# Altium footprint library FiberOptic_PCB.PcbLib: 56 footprints (part 2 of 4)
Each footprint in its own frame and in the unit in brackets; x right, y up, seen from the top. Pads: shape width x height; smd on the part's side, far side on the other; paste and mask are expansions set on the pad; w line width, h text height; cw(c..) or ccw(c..) is an arc to the next point about the centre after c.
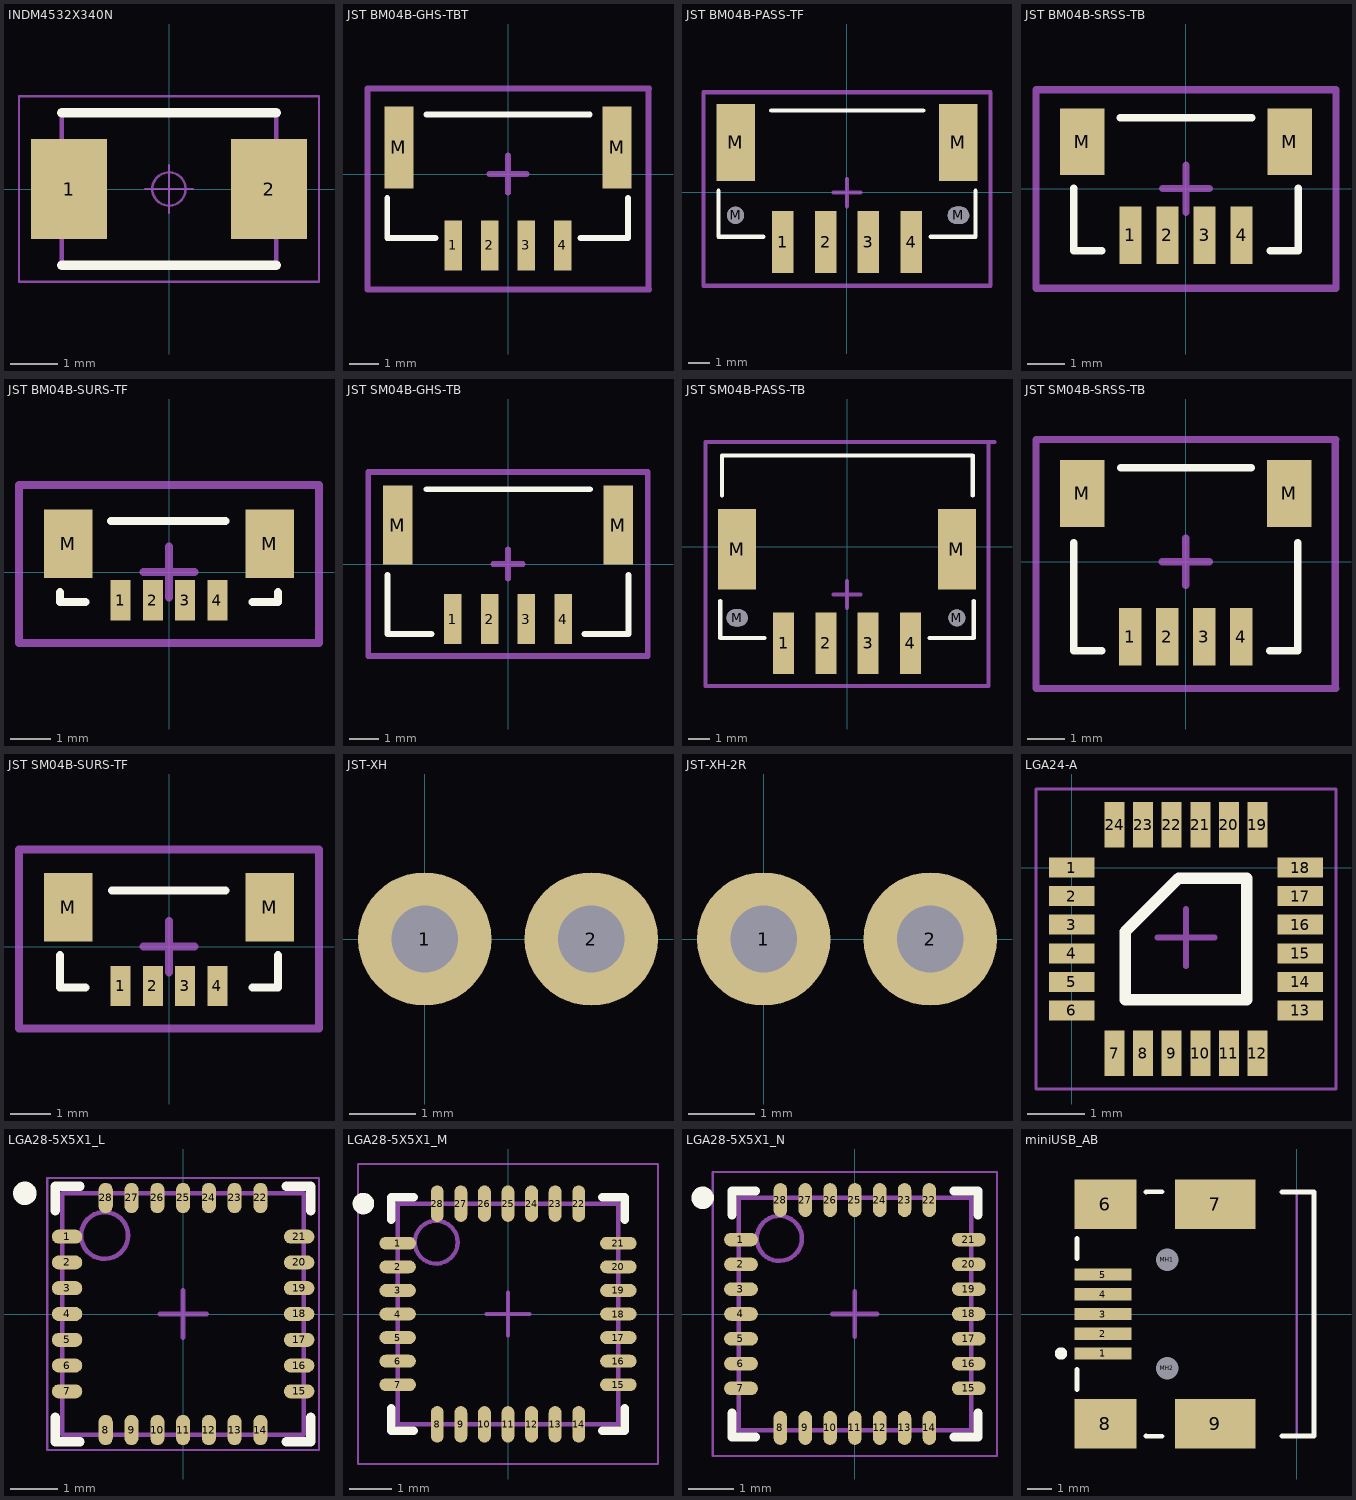
[diagram p1: the footprints below, top view; thin cyan lines are the x and y axes]

## INDM4532X340N [mm] "Inductor, Molded Body; 4.5mm L X 3.2mm W, IPC Medium Density"
height 3.4
pads (2):
  rect 1.6x2.1 smd: 1(-2.1,0) 2(2.1,0)
Top Overlay:
  lines w0.2: -2.25,-1.6 2.25,-1.6 ; -2.25,1.6 2.25,1.6
Mechanical 14:
  lines w0.1: -2.25,-1.6 -2.25,1.6 2.25,1.6 2.25,-1.6 -2.25,-1.6
Mechanical 15:
  circle w0.05: c0,0 r0.35
  lines w0.05: -0.5,0 0.5,0 ; 0,-0.5 0,0.5 ; -3.15,-1.95 -3.15,1.95 3.15,1.95 3.15,-1.95 -3.15,-1.95
3D body "INDM4532X340N.stp": height 3.4, standoff 0, extent -2.25,-1.6 2.25,1.6

## JST BM04B-GHS-TBT [mm] "JST GH Series 1.25mm pitch, top entry connector"
height 4.5
pads (6):
  rect 0.6x1.7 smd: 1(-1.875,-2.437) 2(-0.625,-2.437) 3(0.625,-2.437) 4(1.875,-2.437)
  rect 1x2.8 smd: M(-3.725,0.913) M(3.725,0.913)
Top Overlay:
  lines w0.2: -4.125,-0.812 -4.125,-2.187 -2.475,-2.187 ; -2.784,2.032 2.794,2.032 ; 2.475,-2.187 4.1,-2.187 4.1,-0.812
Mechanical 15:
  lines w0.2: -0.635,0 0.635,0 ; 0,-0.635 0,0.635 ; 4.806,-3.937 4.806,2.921 ; 4.826,-3.937 -4.806,-3.937 -4.806,2.921 4.826,2.921
3D body "JST BM04B-GHS-TBT.STEP": height 4.18, standoff -0.03, extent -4.125,-2.918 4.125,2.032

## JST BM04B-PASS-TF [mm] "JST PA Series 2mm pitch, top entry connector"
height 11.1
pads (8):
  rect 1x2.9 smd: 1(-3,-2.325) 2(-1,-2.325) 3(1,-2.325) 4(3,-2.325)
  round 0.8 hole 0.8 unplated mask+0.102: M(-5.2,-1.075)
  rect 1.8x3.6 smd: M(-5.2,2.325) M(5.2,2.325)
  oval 1x0.8 hole 0.8 slot 1 at 0 deg unplated mask+0.102: M(5.2,-1.075)
Top Overlay:
  lines w0.2: -6,0.075 -6,-2.075 -3.905,-2.075 ; -3.54,3.81 3.556,3.81 ; 3.905,-2.075 6,-2.075 6,0.075
Mechanical 15:
  lines w0.2: -0.635,-0.015 0.635,-0.015 ; 0,-0.65 0,0.62 ; -6.699,-4.357 6.699,-4.357 6.699,4.66 -6.699,4.66 -6.699,-4.357
3D body "JST BM04B-PASS-TF.STEP": height 9, standoff 0, extent -6,-3.225 6,3.875

## JST BM04B-SRSS-TB [mm] "1.0mm pitch/Disconnectable Crimp style connector"
height 2.95
pads (6):
  rect 0.6x1.55 smd: 1(-1.5,-1.262) 2(-0.5,-1.262) 3(0.5,-1.262) 4(1.5,-1.262)
  rect 1.2x1.8 smd: M(-2.8,1.262) M(2.8,1.262)
Top Overlay:
  lines w0.2: -3.032,0.008 -3.032,-1.676 -2.27,-1.676 ; -1.77,1.905 1.778,1.905 ; 2.27,-1.676 3.032,-1.676 3.032,0.008
Mechanical 15:
  lines w0.2: -0.635,0 0.635,0 ; 0,-0.635 0,0.635 ; -4.048,-2.692 -4.048,2.667 4.048,2.667 4.048,-2.692 -4.048,-2.692
3D body "JST BM04B-SRSS-TB.STEP": height 4.32, standoff 0, extent -3,-1.688 3,1.912

## JST BM04B-SURS-TF [mm] "1.0mm pitch/Disconnectable Crimp style connector"
height 3.95
pads (6):
  rect 0.5x1 smd: 1(-1.2,-0.7) 2(-0.4,-0.7) 3(0.4,-0.7) 4(1.2,-0.7)
  rect 1.2x1.7 smd: M(-2.5,0.7) M(2.5,0.7)
Top Overlay:
  lines w0.2: -2.705,-0.5 -2.705,-0.741 -2.07,-0.741 ; -1.435,1.27 1.397,1.27 ; 2.07,-0.741 2.705,-0.741 2.705,-0.5
Mechanical 15:
  lines w0.2: -0.635,0 0.635,0 ; 0,-0.635 0,0.635 ; -3.721,-1.757 3.721,-1.757 3.721,2.159 -3.721,2.159 -3.721,-1.757
3D body "JST BM04B-SURS-TF.STEP": height 2.75, standoff 0, extent -2.7,-1.016 2.7,1.234

## JST SM04B-GHS-TB [mm] "1.25mm pitch/Disconnectable Crimp style connectors"
height 4.35
pads (6):
  rect 0.6x1.7 smd: 1(-1.875,-1.875) 2(-0.625,-1.875) 3(0.625,-1.875) 4(1.875,-1.875)
  rect 1x2.7 smd: M(-3.75,1.325) M(3.75,1.325)
Top Overlay:
  lines w0.2: -4.1,-0.375 -4.1,-2.375 -2.6,-2.375 ; -2.774,2.54 2.794,2.54 ; 2.6,-2.375 4.1,-2.375 4.1,-0.375
Mechanical 15:
  lines w0.2: -0.5,0 0.5,0 ; 0,-0.5 0,0.5 ; -4.75,-3.125 -4.75,3.125 4.75,3.125 4.75,-3.125 -4.75,-3.125
3D body "JST SM04B-GHS-TB.STEP": height 4.35, standoff 0, extent -4.125,-2.31 4.125,2.54

## JST SM04B-PASS-TB [mm] "JST PA Series 2mm pitch, side entry connector"
height 5.7
pads (8):
  rect 1x2.9 smd: 1(-3,-4.575) 2(-1,-4.575) 3(1,-4.575) 4(3,-4.575)
  oval 1x0.8 hole 0.8 slot 1 at 0 deg unplated mask+0.102: M(-5.2,-3.375)
  rect 1.8x3.8 smd: M(-5.2,-0.125) M(5.2,-0.125)
  round 0.8 hole 0.8 unplated mask+0.102: M(5.2,-3.375)
Top Overlay:
  lines w0.2: -6,-2.575 -6,-4.325 -3.905,-4.325 ; -5.921,2.41 -5.921,4.315 5.953,4.315 5.953,2.41 ; 3.905,-4.325 6,-4.325 6,-2.575
Mechanical 15:
  lines w0.2: -0.635,-2.265 0.635,-2.265 ; 0,-2.9 0,-1.63 ; 6.699,4.953 6.699,-6.607 -6.699,-6.607 -6.699,4.953 6.985,4.953
3D body "JST SM04B-PASS-TB.STEP": height 5.8, standoff 0, extent -6,-5.641 6,4.359

## JST SM04B-SRSS-TB [mm] "1.0mm pitch/Disconnectable Crimp style connector"
height 2.95
pads (6):
  rect 0.6x1.55 smd: 1(-1.5,-2.032) 2(-0.5,-2.032) 3(0.5,-2.032) 4(1.5,-2.032)
  rect 1.2x1.8 smd: M(-2.8,1.843) M(2.8,1.843)
Top Overlay:
  lines w0.2: -3.032,0.508 -3.032,-2.413 -2.27,-2.413 ; -1.762,2.54 1.778,2.54 ; 2.27,-2.413 3.032,-2.413 3.032,0.508
Mechanical 15:
  lines w0.2: -0.635,0 0.635,0 ; 0,-0.635 0,0.635 ; 4.048,-3.429 4.048,3.302 ; 4.064,-3.429 -4.048,-3.429 -4.048,3.302 4.064,3.302
3D body "JST SM04B-SRSS-TB.STEP": height 2.95, standoff -0.01, extent -3,-2.383 3,2.567

## JST SM04B-SURS-TF [mm] "1.0mm pitch/Disconnectable Crimp style connector"
height 2.95
pads (6):
  rect 0.5x1 smd: 1(-1.2,-0.975) 2(-0.4,-0.975) 3(0.4,-0.975) 4(1.2,-0.975)
  rect 1.2x1.7 smd: M(-2.5,0.975) M(2.5,0.975)
Top Overlay:
  lines w0.2: -2.705,-0.213 -2.705,-1.016 -2.07,-1.016 ; -1.416,1.397 1.397,1.397 ; 2.07,-1.016 2.705,-1.016 2.705,-0.213
Mechanical 15:
  lines w0.2: -0.635,0 0.635,0 ; 0,-0.635 0,0.635 ; -3.721,-2.032 -3.721,2.413 3.721,2.413 3.721,-2.032 -3.721,-2.032
3D body "JST SM04B-SURS-TF.STEP": height 1.75, standoff 0, extent -2.7,-1.303 2.7,1.397

## JST-XH [mm]
pads (2):
  round 2 hole 1: 1(0,0) 2(2.5,0)
3D body "JST 2pin.stp": height 6.85, standoff -3.45, extent -2.515,-3.5 4.915,2.228

## JST-XH-2R [mm]
pads (2):
  round 2 hole 1: 1(0,0) 2(2.5,0)
3D body "User Library-S2B-XH-A-1.STEP": height 5.95, standoff -3.4, extent -2.447,-9.139 4.953,0.381

## LGA24-A [mm]
pads (24):
  rect 0.8x0.35 smd mask+0.051: 1(0,0) 2(0,-0.5) 3(0,-1) 4(0,-1.5) 5(0,-2) 6(0,-2.5) 13(4,-2.5) 14(4,-2) 15(4,-1.5) 16(4,-1)
  rect 0.35x0.8 smd mask+0.051: 7(0.75,-3.25) 8(1.25,-3.25) 9(1.75,-3.25) 10(2.25,-3.25) 11(2.75,-3.25) 12(3.25,-3.25) 19(3.25,0.75) 20(2.75,0.75) 21(2.25,0.75) 22(1.75,0.75) 23(1.25,0.75) 24(0.75,0.75)
  rect 0.8x0.35 smd paste+0 mask+0.051: 17(4,-0.5) 18(4,0)
Top Overlay:
  lines w0.2: 0.935,-2.315 0.935,-1.12 1.87,-0.185 3.065,-0.185 3.065,-2.315 0.935,-2.315
Mechanical 15:
  lines w0.05: -0.625,-3.875 -0.625,1.375 4.625,1.375 4.625,-3.875 -0.625,-3.875
  lines w0.1: 1.5,-1.225 2.5,-1.225 ; 2,-1.725 2,-0.725

## LGA28-5X5X1_L [mm] "PQFN, 28-Leads, Body 5x5mm, Pitch 0.55mm, IPC High Density"
height 1
pads (28):
  oval 0.65x0.3 smd: 1(-2.475,1.65) 2(-2.475,1.1) 3(-2.475,0.55) 4(-2.475,0) 5(-2.475,-0.55) 6(-2.475,-1.1) 7(-2.475,-1.65) 15(2.475,-1.65) 16(2.475,-1.1) 17(2.475,-0.55) 18(2.475,0) 19(2.475,0.55) 20(2.475,1.1) 21(2.475,1.65)
  oval 0.3x0.65 smd: 8(-1.65,-2.475) 9(-1.1,-2.475) 10(-0.55,-2.475) 11(0,-2.475) 12(0.55,-2.475) 13(1.1,-2.475) 14(1.65,-2.475) 22(1.65,2.475) 23(1.1,2.475) 24(0.55,2.475) 25(0,2.475) 26(-0.55,2.475) 27(-1.1,2.475) 28(-1.65,2.475)
Top Overlay:
  circle w0.25: c-3.375,2.575 r0.125
  lines w0.2: -2.725,-2.2 -2.725,-2.725 -2.2,-2.725 ; -2.725,2.2 -2.725,2.725 -2.2,2.725 ; 2.2,-2.725 2.725,-2.725 2.725,-2.2 ; 2.2,2.725 2.725,2.725 2.725,2.2
Mechanical 13:
  circle w0.1: c-1.675,1.675 r0.5
  lines w0.1: -2.575,-2.575 2.575,-2.575 2.575,2.575 -2.575,2.575 -2.575,-2.575
Mechanical 15:
  lines w0.05: -2.9,-2.9 2.9,-2.9 2.9,2.9 -2.9,2.9 -2.9,-2.9
  lines w0.1: -0.5,0 0.5,0 ; 0,-0.5 0,0.5
3D body: height 1, standoff 0, extent -2.575,-2.575 2.575,2.575

## LGA28-5X5X1_M [mm] "PQFN, 28-Leads, Body 5x5mm, Pitch 0.55mm, IPC Low Density"
height 1
pads (28):
  oval 0.85x0.3 smd: 1(-2.575,1.65) 2(-2.575,1.1) 3(-2.575,0.55) 4(-2.575,0) 5(-2.575,-0.55) 6(-2.575,-1.1) 7(-2.575,-1.65) 15(2.575,-1.65) 16(2.575,-1.1) 17(2.575,-0.55) 18(2.575,0) 19(2.575,0.55) 20(2.575,1.1) 21(2.575,1.65)
  oval 0.3x0.85 smd: 8(-1.65,-2.575) 9(-1.1,-2.575) 10(-0.55,-2.575) 11(0,-2.575) 12(0.55,-2.575) 13(1.1,-2.575) 14(1.65,-2.575) 22(1.65,2.575) 23(1.1,2.575) 24(0.55,2.575) 25(0,2.575) 26(-0.55,2.575) 27(-1.1,2.575) 28(-1.65,2.575)
Top Overlay:
  circle w0.25: c-3.375,2.575 r0.125
  lines w0.2: -2.725,-2.2 -2.725,-2.725 -2.2,-2.725 ; -2.725,2.2 -2.725,2.725 -2.2,2.725 ; 2.2,-2.725 2.725,-2.725 2.725,-2.2 ; 2.2,2.725 2.725,2.725 2.725,2.2
Mechanical 13:
  circle w0.1: c-1.675,1.675 r0.5
  lines w0.1: -2.575,-2.575 -2.575,2.575 2.575,2.575 2.575,-2.575 -2.575,-2.575
Mechanical 15:
  lines w0.05: -3.5,-3.5 -3.5,3.5 3.5,3.5 3.5,-3.5 -3.5,-3.5
  lines w0.1: -0.5,0 0.5,0 ; 0,-0.5 0,0.5
3D body: height 1, standoff 0, extent -2.575,-2.575 2.575,2.575

## LGA28-5X5X1_N [mm] "PQFN, 28-Leads, Body 5x5mm, Pitch 0.55mm, IPC Medium Density"
height 1
pads (28):
  oval 0.75x0.3 smd: 1(-2.525,1.65) 2(-2.525,1.1) 3(-2.525,0.55) 4(-2.525,0) 5(-2.525,-0.55) 6(-2.525,-1.1) 7(-2.525,-1.65) 15(2.525,-1.65) 16(2.525,-1.1) 17(2.525,-0.55) 18(2.525,0) 19(2.525,0.55) 20(2.525,1.1) 21(2.525,1.65)
  oval 0.3x0.75 smd: 8(-1.65,-2.525) 9(-1.1,-2.525) 10(-0.55,-2.525) 11(0,-2.525) 12(0.55,-2.525) 13(1.1,-2.525) 14(1.65,-2.525) 22(1.65,2.525) 23(1.1,2.525) 24(0.55,2.525) 25(0,2.525) 26(-0.55,2.525) 27(-1.1,2.525) 28(-1.65,2.525)
Top Overlay:
  circle w0.25: c-3.375,2.575 r0.125
  lines w0.2: -2.725,-2.2 -2.725,-2.725 -2.2,-2.725 ; -2.725,2.2 -2.725,2.725 -2.2,2.725 ; 2.2,-2.725 2.725,-2.725 2.725,-2.2 ; 2.2,2.725 2.725,2.725 2.725,2.2
Mechanical 13:
  circle w0.1: c-1.675,1.675 r0.5
  lines w0.1: -2.575,-2.575 2.575,-2.575 2.575,2.575 -2.575,2.575 -2.575,-2.575
Mechanical 15:
  lines w0.05: -3.15,-3.15 3.15,-3.15 3.15,3.15 -3.15,3.15 -3.15,-3.15
  lines w0.1: -0.5,0 0.5,0 ; 0,-0.5 0,0.5
3D body: height 1, standoff 0, extent -2.575,-2.575 2.575,2.575

## miniUSB_AB [mm] "Connector; USB2.0, Type AB, SM; 5 Position; Right Angle"
height 3.9
pads (11):
  rect 2.3x0.5 smd: 1(-7.85,-1.6) 2(-7.85,-0.8) 3(-7.85,0) 4(-7.85,0.8) 5(-7.85,1.6)
  rect 2.5x2 smd: 6(-7.75,4.45) 8(-7.75,-4.45)
  rect 3.262x2 smd: 7(-3.302,4.445) 9(-3.302,-4.445)
  round 0.6 hole 0.9 unplated: MH1(-5.25,2.2) MH2(-5.25,-2.2)
Top Overlay:
  circle w0.25: c-9.55,-1.6 r0.125
  lines w0.2: -8.9,-3.05 -8.9,-2.25 ; -8.9,2.25 -8.9,3.05 ; -6.1,-4.95 -5.461,-4.953 ; -6.1,4.95 -5.461,4.953 ; -0.6,-4.95 0.7,-4.95 0.7,4.95 -0.6,4.95
Mechanical 1:
  lines w0.1: 0,-4.95 0,4.95
  text "PCB Edge" at 0.432,-4.036 h0.25
3D body "MOLEX_0678038020.STEP": height 4, standoff -0.95, extent -8.294,-4.95 0.706,4.95